# Altium footprint library Transistors_rus.PCBLIB: 35 footprints (part 3 of 3)
Each footprint in its own frame and in the unit in brackets; x right, y up, seen from the top. Pads: shape width x height; smd on the part's side, far side on the other; paste and mask are expansions set on the pad; w line width, h text height; cw(c..) or ccw(c..) is an arc to the next point about the centre after c.
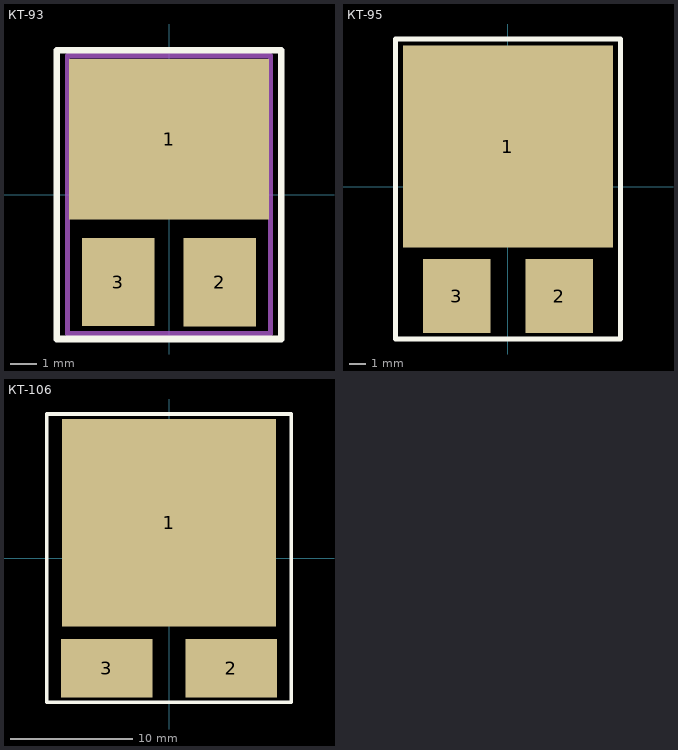
[diagram p2: the footprints below, top view; thin cyan lines are the x and y axes]

## КТ-93 [mm]
height 3.06
pads (3):
  rect 7.5x6 smd: 1(0,2.075)
  rect 2.7x3.3 smd: 2(1.9,-3.275) 3(-1.9,-3.27)
Top Overlay:
  lines w0.25: -4.2,-5.4 -4,-5.4 4,-5.4 4.2,-5.4 4.2,5.4 -4.2,5.4 -4.2,-5.4
Mechanical 1:
  lines w0.2: -3.8,-5.2 -3.8,5.2 3.8,5.2 3.8,-5.2 -3.8,-5.2
  text ".Designator" at -2.07,-0.55 h1.5
  text "2" at 1.6,-3.725 h1.5
  text "3" at -2.15,-3.725 h1.5
  text "1" at 0,1.625 h1.5
3D body: height 3.06, standoff 0, extent -3.8,-5.1 3.8,5.1

## КТ-95 [mm]
height 3.6
pads (3):
  rect 12.5x12 smd: 1(0,2.4)
  rect 4x4.4 smd: 2(3.05,-6.5) 3(-3.05,-6.5)
Top Overlay:
  lines w0.3: -6.7,-9.05 -6.7,8.8 6.7,8.8 6.7,-9.05 -6.7,-9.05
Mechanical 1:
  lines w0.2: -6.7,-9.05 -6.7,8.8 6.7,8.8 6.7,-9.05 -6.7,-9.05
  text "2" at 2.8,-7 h1.5
  text "3" at -3.3,-7 h1.5
  text "1" at 0,2.4 h1.5
  text ".Designator" at -2.42,-1.55 h1.5
3D body: height 3.6, standoff 0, extent -6.7,-9 6.7,9

## КТ-106 [mm]
height 3.4
pads (3):
  rect 17.5x17 smd: 1(0,2.9)
  rect 7.5x4.8 smd: 2(5.1,-9) 3(-5.1,-9)
Top Overlay:
  lines w0.3: -10,-11.8 -10,11.8 10,11.8 10,-11.8 -10,-11.8
Mechanical 1:
  lines w0.2: -10,-11.8 -10,11.8 10,11.8 10,-11.8 -10,-11.8
  text "2" at 4.7,-9 h1.5
  text "3" at -5.2,-8.9 h1.5
  text "1" at 0,2.4 h1.5
  text ".Designator" at -2.42,-1.55 h1.5
3D body: height 3.4, standoff 0, extent -10,-11.8 10,11.8